# Altium footprint library Connectors.PcbLib: 9 footprints
Each footprint in its own frame and in the unit in brackets; x right, y up, seen from the top. Pads: shape width x height; smd on the part's side, far side on the other; paste and mask are expansions set on the pad; w line width, h text height; cw(c..) or ccw(c..) is an arc to the next point about the centre after c.
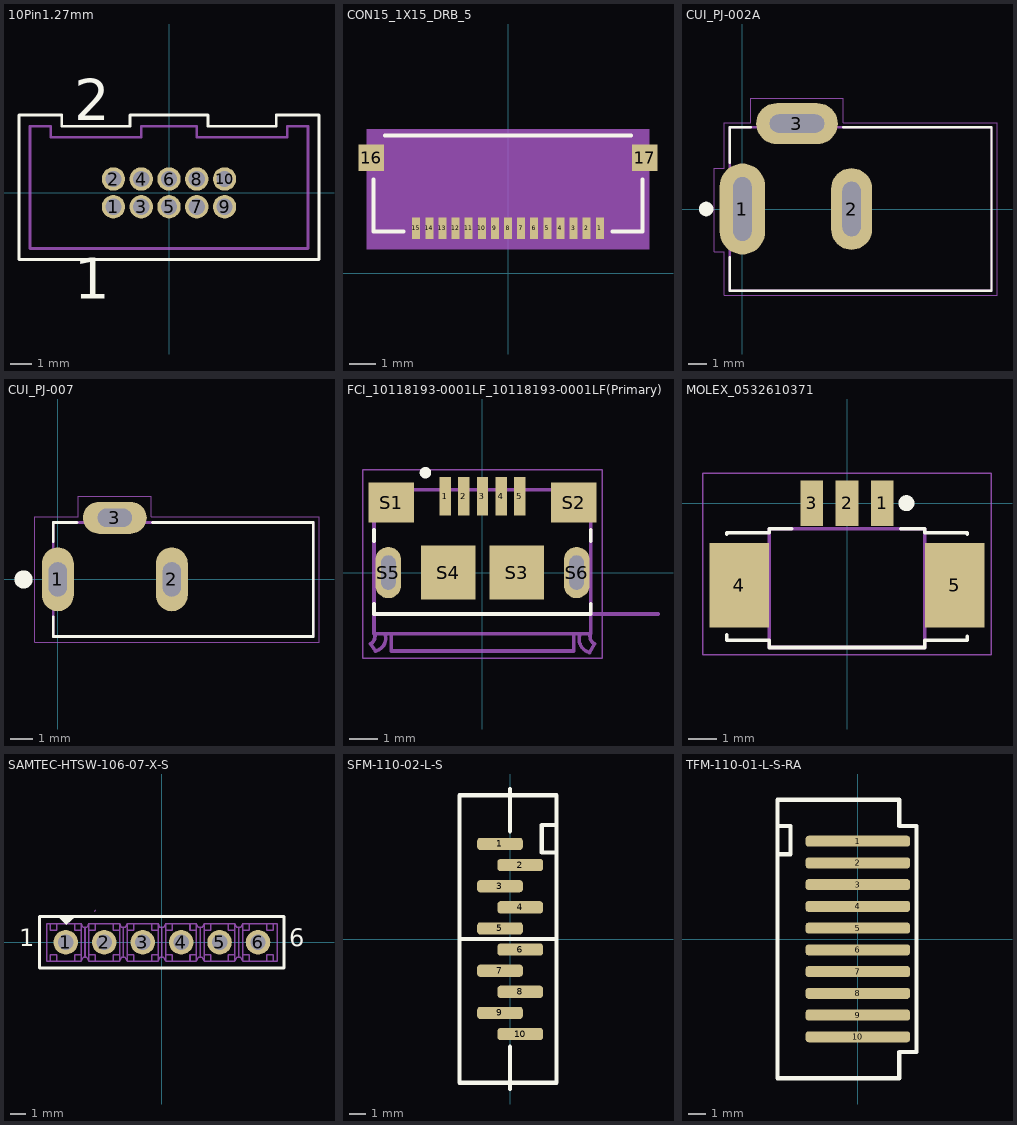
[diagram p0: the footprints below, top view; thin cyan lines are the x and y axes]

## 10Pin1.27mm [mil]
pads (10):
  round 42 hole 29: 1(-100,-25) 2(-100,25) 3(-50,-25) 4(-50,25) 5(0,-25) 6(0,25) 7(50,-25) 8(50,25) 9(100,-25) 10(100,25)
Top Overlay:
  lines w5: -270,-120 -270,140 -193,140 -193,120 -70,120 -70,140 70,140 70,120 193,120 193,140 270,140 270,-120 -270,-120
  text "2" at -170.38,130.47 h73.82
  text "1" at -170.33,-190.19 h73.82
Mechanical 1:
  lines w5: -250,-100 -250,120 -213,120 -213,100 -50,100 -50,120 50,120 50,100 213,100 213,120 250,120 250,-100 -250,-100
3D body "SHF-105-01-L-D-TH.stp": height 210, standoff -75, extent -249.99,-104.99 250.01,115.01

## CON15_1X15_DRB_5 [mil]
pads (17):
  rect 12x32 smd mask+2: 1(137.8,67) 2(118.11,67) 3(98.43,67) 4(78.74,67) 5(59.06,67) 6(39.37,67) 7(19.69,67) 8(0,67) 9(-19.68,67) 10(-39.37,67) 11(-59.06,67) 12(-78.74,67) 13(-98.43,67) 14(-118.11,67) 15(-137.8,67)
  rect 38x40 smd mask+2: 16(-205,173) 17(205,173)
Top Overlay:
  lines w6: -202,139.9 -202,62 -156.9,62 ; -184.38,206 184.38,206 ; 156.9,62 202,62 202,139.9
Mechanical 5:
  region: -212,216 212,216 212,36 -212,36
Mechanical 13:
  lines w1: -197,67 -197,201 197,201 197,67 -197,67
Mechanical 15:
  region: -207,211 -207,41 207,41 207,211
  lines w6: -207,41 -207,211 207,211 207,41 -207,41
3D body "s10051922_1510elf.stp": height 50, standoff -1.18, extent -196.85,52.36 196.85,200

## CUI_PJ-002A [mm]
pads (3):
  oval 2.5x5 hole 1 slot 3.5 at 90 deg mask+0.051: 1(0,0)
  oval 2.25x4.5 hole 1 slot 3 at 90 deg mask+0.051: 2(6,0)
  oval 4.5x2.25 hole 1 slot 3 at 0 deg mask+0.051: 3(3,4.7)
Top Overlay:
  circle w0.4: c-2,0 r0.2
  lines w0.127: -0.7,-2.65 -0.7,-4.5 13.7,-4.5 13.7,4.5 5.55,4.5 ; -0.7,2.55 -0.7,4.5 0.45,4.5
Mechanical 1:
  lines w0: -0.5,-1.75 -0.5,1.75 0.5,1.75 0.5,-1.75 -0.5,-1.75 ; 1.5,4.2 4.5,4.2 4.5,5.2 1.5,5.2 1.5,4.2 ; 5.5,-1.5 5.5,1.5 6.5,1.5 6.5,-1.5 5.5,-1.5
Mechanical 4:
  lines w0.127: -0.7,-4.5 -0.7,4.5 ; -0.7,-4.5 13.7,-4.5 ; -0.7,-4.5 -0.7,4.5 ; -0.7,-4.5 13.7,-4.5 ; -0.7,4.5 13.7,4.5 ; -0.7,4.5 13.7,4.5 ; 13.7,-4.5 13.7,4.5 ; 13.7,-4.5 13.7,4.5
Mechanical 16:
  lines w0.05: -1.55,-2.35 -1,-2.35 -1,-4.75 14,-4.75 14,4.75 5.55,4.75 5.55,6.1 0.45,6.1 0.45,4.75 -1,4.75 -1,2.25 -1.55,2.25 -1.55,-2.35
3D body "CUI_PJ-002A.step": height 11.1, standoff -3.4, extent -0.684,-4.573 13.716,4.827

## CUI_PJ-007 [mm]
pads (3):
  oval 1.4x2.8 hole 0.8 slot 1.5 at 90 deg: 1(0,0) 2(5,0)
  oval 2.8x1.4 hole 0.8 slot 1.5 at 0 deg: 3(2.5,2.7)
Top Overlay:
  circle w0.4: c-1.5,0 r0.2
  lines w0.127: -0.2,-1.65 -0.2,-2.5 11.2,-2.5 11.2,2.5 4.15,2.5 ; -0.2,1.65 -0.2,2.5 0.85,2.5
Mechanical 1:
  lines w0: -0.4,-0.75 0.4,-0.75 0.4,0.75 -0.4,0.75 -0.4,-0.75 ; 1.75,2.3 3.25,2.3 3.25,3.1 1.75,3.1 1.75,2.3 ; 4.6,-0.75 5.4,-0.75 5.4,0.75 4.6,0.75 4.6,-0.75
Mechanical 4:
  lines w0.127: -0.2,-2.5 11.2,-2.5 ; -0.2,-2.5 -0.2,2.5 ; -0.2,-2.5 11.2,-2.5 ; -0.2,-2.5 -0.2,2.5 ; -0.2,2.5 11.2,2.5 ; -0.2,2.5 11.2,2.5 ; 11.2,-2.5 11.2,2.5 ; 11.2,-2.5 11.2,2.5
Mechanical 16:
  lines w0.05: -1,-2.75 11.45,-2.75 11.45,2.75 4.1,2.75 4.1,3.65 0.9,3.65 0.9,2.75 -1,2.75 -1,-2.75
3D body "CUI_PJ-007.step": height 7.7, standoff -2.9, extent -0.254,-2.548 11.196,2.802

## FCI_10118193-0001LF_10118193-0001LF(Primary) [mm]
pads (11):
  rect 0.4x1.35 smd mask+0.051: 1(-1.3,2.675) 2(-0.65,2.675) 3(0,2.675) 4(0.65,2.675) 5(1.3,2.675)
  rect 1.6x1.4 smd mask+0.051: S1(-3.2,2.45) S2(3.2,2.45)
  rect 1.9x1.9 smd mask+0.051: S3(1.2,0) S4(-1.2,0)
  oval 0.9x1.8 hole 0.508 slot 1.2 at 90 deg mask+0.051: S5(-3.3,0) S6(3.3,0)
Top Overlay:
  circle w0.2: c-2,3.5 r0.1
  lines w0.127: -3.8,-1.45 3.8,-1.45 ; -3.8,-1.4 -3.8,-1.1 ; -3.8,1.1 -3.8,1.5 ; 3.8,-1.4 3.8,-1.1 ; 3.8,1.1 3.8,1.5
Mechanical 1:
  lines w0: -3.55,-0.35 ccw(c-3.3,-0.35) -3.3,-0.6 ccw(c-3.3,-0.35) -3.05,-0.35 ; -3.55,0.35 cw(c-3.3,0.35) -3.3,0.6 cw(c-3.3,0.35) -3.05,0.35 ; 3.05,-0.35 ccw(c3.3,-0.35) 3.3,-0.6 ccw(c3.3,-0.35) 3.55,-0.35 3.55,0.35 ccw(c3.3,0.35) 3.3,0.6 ccw(c3.3,0.35) 3.05,0.35 3.05,-0.35
Mechanical 4:
  lines w0.127: -3.8,-2.15 3.8,-2.15 ; -3.8,-2.15 -3.8,-2.1 ; -3.8,-2.15 3.8,-2.15 ; -3.8,-2.15 -3.8,-2.1 ; -3.8,-2.1 cw(c-4.065,-2.235) -3.93,-2.5 ccw(c-4.065,-2.235) -3.8,-2.1 ; -3.8,-2.1 -3.8,2.9 ; -3.8,-2.1 -3.8,2.9 ; -3.8,2.9 3.8,2.9 ; -3.8,2.9 3.8,2.9 ; -3.2,-2.75 -3.2,-2.2 -3.2,-2.75 ; -3.2,-2.75 3.2,-2.75 ; -3.2,-2.75 3.2,-2.75 ; 3.2,-2.75 3.2,-2.2 3.2,-2.75 ; 3.8,-2.15 3.8,-1.45 ; 3.8,-2.15 3.8,-1.45 ; 3.8,-1.45 3.8,2.9 ; 3.8,-1.45 6.15,-1.45 3.8,-1.45 ; 3.8,-1.45 3.8,2.9 ; -3.93,-2.5 -3.75,-2.75 -3.93,-2.5 ; -3.746,-2.749 ccw(c-3.85,-2.3) -3.401,-2.196 cw(c-3.85,-2.3) -3.746,-2.749 ; 3.401,-2.198 ccw(c3.875,-2.325) 3.748,-2.799 cw(c3.875,-2.325) 3.401,-2.198 ; 3.75,-2.8 3.93,-2.5 3.75,-2.8 ; 3.8,-2.1 ccw(c4.065,-2.235) 3.93,-2.5 cw(c4.065,-2.235) 3.8,-2.1
Mechanical 16:
  lines w0.05: -4.2,-3 -4.2,3.6 4.2,3.6 4.2,-3 -4.2,-3
3D body "10118193-0001lfc.stp": height 3.18, standoff -0.43, extent -3.928,-2.794 3.928,2.867

## MOLEX_0532610371 [mm]
pads (5):
  rect 0.8x1.6 smd mask+0.051: 1(1.25,0) 2(0,0) 3(-1.25,0)
  rect 2.1x3 smd mask+0.051: 4(-3.8,-2.9) 5(3.8,-2.9)
Top Overlay:
  circle w0.28: c2.1,0 r0.14
  circle w0.28: c2.1,0 r0.14
  lines w0.127: -4.25,-4.65 -4.25,-4.85 -2.75,-4.85 -2.75,-5.1 2.75,-5.1 2.75,-4.85 4.25,-4.85 4.25,-4.7 ; -4.25,-1.1 -4.25,-1.05 -2.75,-1.05 -2.75,-0.9 -1.95,-0.9 ; 1.9,-0.9 2.75,-0.9 2.75,-1.05 4.25,-1.05 4.25,-1.1
Mechanical 4:
  lines w0.127: -2.75,-5.1 -2.75,-0.9 ; -2.75,-5.1 2.75,-5.1 ; -2.75,-5.1 -2.75,-0.9 ; -2.75,-5.1 2.75,-5.1 ; -2.75,-0.9 2.75,-0.9 ; -2.75,-0.9 2.75,-0.9 ; 2.75,-5.1 2.75,-0.9 ; 2.75,-5.1 2.75,-0.9
Mechanical 16:
  lines w0.05: -5.1,-5.35 5.1,-5.35 5.1,1.05 -5.1,1.05 -5.1,-5.35
3D body "532610371.stp": height 3.38, standoff -0.02, extent -4.45,-4.785 4.45,0.415

## SAMTEC-HTSW-106-07-X-S [mm]
pads (6):
  round 1.62 hole 1.02: 1(-6.35,0) 2(-3.81,0) 3(-1.27,0) 4(1.27,0) 5(3.81,0) 6(6.35,0)
Top Overlay:
  region: -6.858,1.695 -6.328,1.165 -5.715,1.695
  lines w0.2: -8.07,-1.695 8.07,-1.695 8.07,1.695 -8.07,1.695 -8.07,-1.695
  text "6" at 8.411,-0.635 h1.97
  text "1" at -9.44,-0.635 h1.97
Mechanical 16:
  drawing of 170 lines, arcs and shapes, not listed
  text "6" at 8.411,-0.635 h1.97
  text "1" at -9.44,-0.635 h1.97
Mechanical 40:
  lines w0: -4.445,2.064 -4.382,2.143
Mechanical 42:
  lines w0.1: -8.07,-1.695 8.07,-1.695 8.07,1.695 -8.07,1.695 -8.07,-1.695
3D body "HTSW-106-07-G-S-LL.stp": height 8.38, standoff -2.54, extent -7.62,-1.244 7.62,1.245

## SFM-110-02-L-S [mil]
pads (10):
  rrect50% 108x29 smd: 1(-24,225) 2(24,175) 3(-24,125) 4(24,75) 5(-24,25) 6(24,-25) 7(-24,-75) 8(24,-125) 9(-24,-175) 10(24,-225)
Top Overlay:
  lines w10: -120,0 0,0 110,0 ; 0,-355 0,-255 ; 0,255 0,355 ; 105,205 75,205 75,270 105,270 ; -120,-340 110,-340 110,340 -120,340 -120,-340
3D body "SFM-110-02-L-S.stp": height 185, standoff 0, extent -62.49,-327.5 62.51,327.5

## TFM-110-01-L-S-RA [mil]
pads (10):
  rrect50% 240x25 smd: 1(0,225) 2(0,175) 3(0,125) 4(0,75) 5(0,25) 6(0,-25) 7(0,-75) 8(0,-125) 9(0,-175) 10(0,-225)
Top Overlay:
  lines w10: -185,195 -155,195 -155,260 -185,260 ; -185,-320 95,-320 95,-260 135,-260 135,260 95,260 95,320 -185,320 -185,-320
3D body "TFM-110-01-L-S-RA.stp": height 250, standoff 5, extent -177.51,-312.49 91.5,312.51